# EAGLE library part CAT25160HU2I (library on-semiconductor)
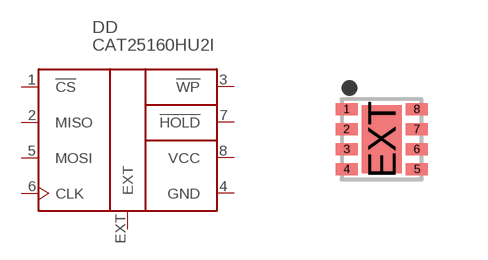
[diagram p0: symbol with the pads of 8-UDFN; footprint 8-UDFN]

Designator prefix DD

## CAT25160HU2I  [8-UDFN]
1  !CS  in
2  MISO  out
3  !WP  in
4  GND  pwr
5  MOSI  in
6  CLK  in
7  !HOLD  in
8  VCC  pwr
EXT  EXT  pwr

## Footprint 8-UDFN (pad centres in mm)
smd 0.55 x 0.3: 1 -0.88,0.75; 2 -0.88,0.25; 3 -0.88,-0.25; 4 -0.88,-0.75; 5 0.88,-0.75; 6 0.88,-0.25; 7 0.88,0.25; 8 0.88,0.75
smd 1 x 1.7: EXT 0,0